# EAGLE library part --MERGED_OPAMP-AD8052 (library proxmark3_exported_and_modified_components)
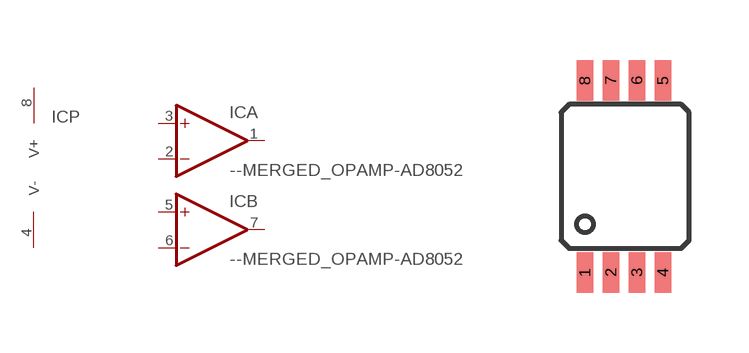
[diagram p8: symbol with the pads of --MERGED_MSOP8; footprint --MERGED_MSOP8]

Designator prefix IC; gates A=--MERGED_OPAMP B=--MERGED_OPAMP P=--MERGED_POWER-PINS

## --MERGED_OPAMP-AD8052  [--MERGED_MSOP8]
1  A:OUT  out
2  A:-IN  in
3  A:+IN  in
4  P:V-
5  B:+IN  in
6  B:-IN  in
7  B:OUT  out
8  P:V+

## Footprint --MERGED_MSOP8 (pad centres in mm)
smd 0.41 x 1.02: 1 0,0; 2 0.65,0; 3 1.3,0; 4 1.95,0; 5 1.95,4.8; 6 1.3,4.8; 7 0.65,4.8; 8 0,4.8